# Altium footprint library PBD-16-narrow.PcbLib: 1 footprints
Each footprint in its own frame and in the unit in brackets; x right, y up, seen from the top. Pads: shape width x height; smd on the part's side, far side on the other; paste and mask are expansions set on the pad; w line width, h text height; cw(c..) or ccw(c..) is an arc to the next point about the centre after c.
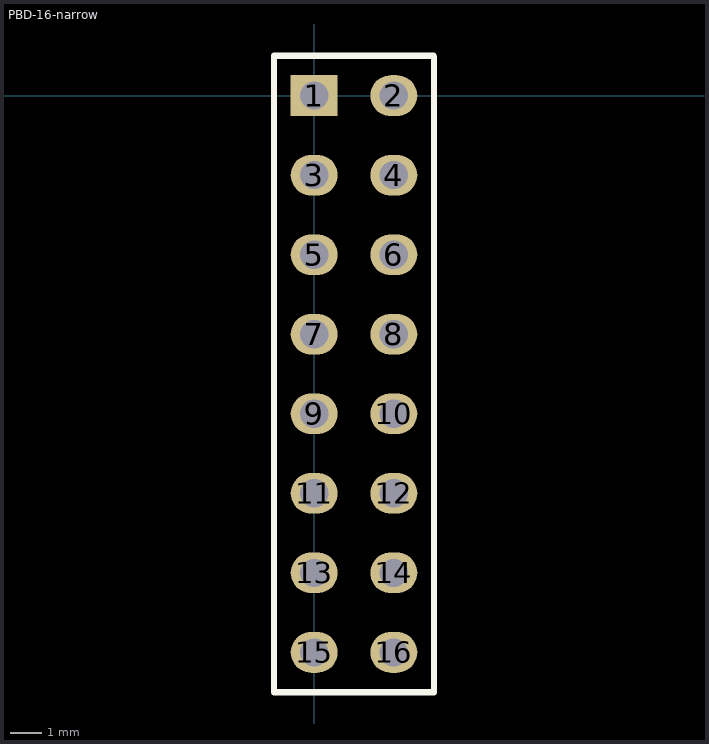
[diagram p0: the footprint, top view; thin cyan lines are the x and y axes]

## PBD-16-narrow [mm]
pads (16):
  rect 1.5x1.3 hole 0.9: 1(0,0)
  oval 1.5x1.3 hole 0.9: 2(2.54,0) 3(0,-2.54) 4(2.54,-2.54) 5(0,-5.08) 6(2.54,-5.08) 7(0,-7.62) 8(2.54,-7.62) 9(0,-10.16) 10(2.54,-10.16) 11(0,-12.7) 12(2.54,-12.7) 13(0,-15.24) 14(2.54,-15.24) 15(0,-17.78) 16(2.54,-17.78)
Top Overlay:
  lines w0.2: 3.81,1.27 -1.283,1.27 -1.283,-19.05 3.823,-19.05 3.823,1.245
3D body "PBD_2.54_8.SLDPRT": height 8.4, standoff -2.29, extent -1.23,-19.175 3.77,-8.765
3D body "PBD_2.54_8.SLDPRT": height 8.4, standoff -2.29, extent -1.23,-9.013 3.77,1.397